# EAGLE library part 8X8MATRIXRG (library Lectrobox)
8x8 Matrix LED, Red and Green, Row anodes/Column Cathodes
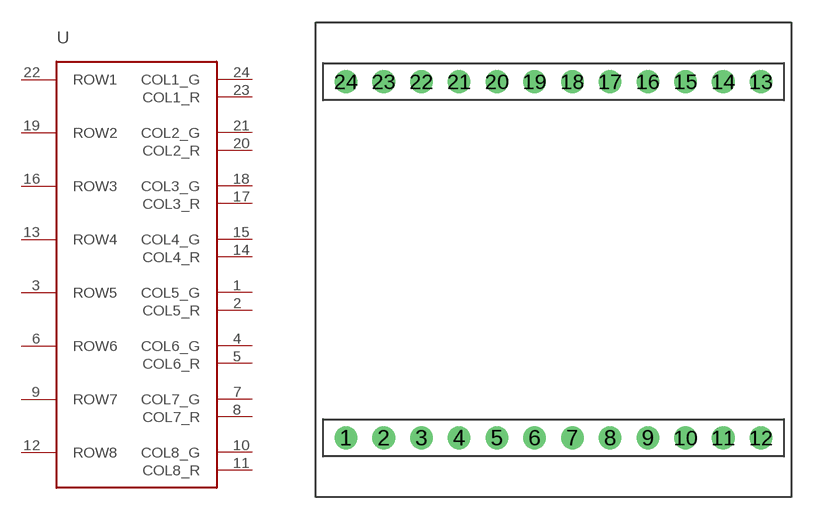
[diagram p0: symbol with the pads of DIP24_24MM; footprint DIP24_24MM]

Designator prefix -

## 8X8MATRIXRG  [DIP24_24MM]
1  COL5_G  out
2  COL5_R  out
3  ROW5  in
4  COL6_G  out
5  COL6_R  out
6  ROW6  in
7  COL7_G  out
8  COL7_R  out
9  ROW7  in
10  COL8_G  out
11  COL8_R  out
12  ROW8  in
13  ROW4  in
14  COL4_R  out
15  COL4_G  out
16  ROW3  in
17  COL3_R  out
18  COL3_G  out
19  ROW2  in
20  COL2_R  out
21  COL2_G  out
22  ROW1  in
23  COL1_R  out
24  COL1_G  out

## Footprint DIP24_24MM (pad centres in mm)
drill 1.016 round: 1 -13.97,-12; 2 -11.43,-12; 3 -8.89,-12; 4 -6.35,-12; 5 -3.81,-12; 6 -1.27,-12; 7 1.27,-12; 8 3.81,-12; 9 6.35,-12; 10 8.89,-12; 11 11.43,-12; 12 13.97,-12; 13 13.97,12; 14 11.43,12; 15 8.89,12; 16 6.35,12; 17 3.81,12; 18 1.27,12; 19 -1.27,12; 20 -3.81,12; 21 -6.35,12; 22 -8.89,12; 23 -11.43,12; 24 -13.97,12